# Altium schematic symbol library SnapEDAsch.SchLib: 1 symbol
Pins are listed as number, name and electrical type; pins without a type are passive.

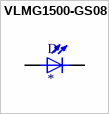
[diagram p0: symbol VLMG1500-GS08]

## VLMG1500-GS08
designator D
Yellow-Green 571nm LED Indication - Discrete 2V 0402 _1005 Metric_; MF: Vishay; MP: VLMG1500-GS08; Price: None; Availability: Unavailable; Package: 0402 Vishay; SnapEDA_Link: https://www.snapeda.com/parts/VLMG1500-GS08/Vishay%20Semiconductor%20Opto%20Division/view-part/450066/?ref=snap; Value: *
footprint LEDC1005X35N
pins: 1, 2